# Altium schematic symbol library TPS60403.SchLib: 1 symbol
Pins are listed as number, name and electrical type; pins without a type are passive.

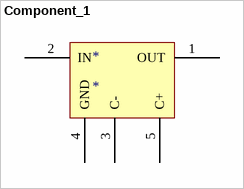
[diagram p0: symbol Component_1]

## Component_1
designator *
pins: 1 OUT, 2 IN, 3 C-, 4 GND, 5 C+